# Altium schematic symbol library C-M001-32_V1.0.SCHLIB: 14 symbols
Pins are listed as number, name and electrical type; pins without a type are passive.

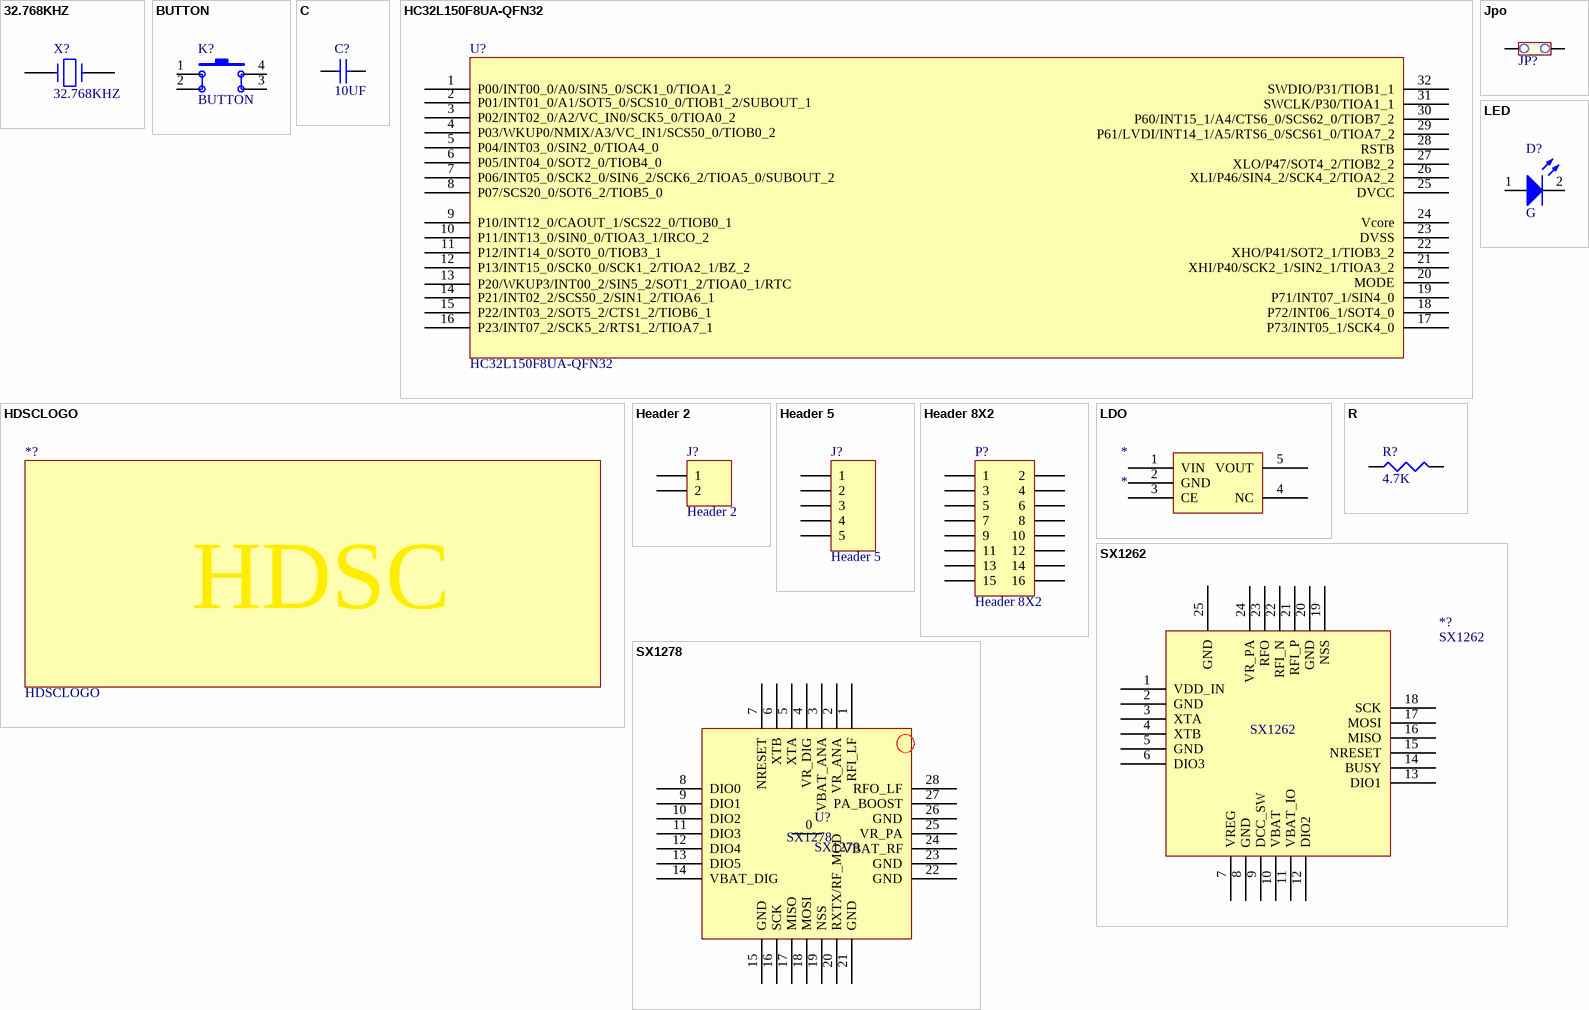
[diagram p0: symbols 32.768KHZ to SX1278]

## 32.768KHZ
designator X?
footprint XTAL-32.7681
pins: 1, 2
2 alternate drawings of the same symbol

## BUTTON
designator K?
footprint KEY1
pins: 1, 2, 3, 4

## C
designator C?, comment 10UF
footprint C0805
pins: 1, 2

## HC32L150F8UA-QFN32
designator U?
footprint QFN32 (QFN, 32-Leads, Body 4.1x4.1mm (max), Pitch 0.40mm, IPC Medium Density)
pins: 1 P00/INT00_0/A0/SIN5_0/SCK1_0/TIOA1_2, 2 P01/INT01_0/A1/SOT5_0/SCS10_0/TIOB1_2/SUBOUT_1, 3 P02/INT02_0/A2/VC_IN0/SCK5_0/TIOA0_2, 4 P03/WKUP0/NMIX/A3/VC_IN1/SCS50_0/TIOB0_2, 5 P04/INT03_0/SIN2_0/TIOA4_0, 6 P05/INT04_0/SOT2_0/TIOB4_0, 7 P06/INT05_0/SCK2_0/SIN6_2/SCK6_2/TIOA5_0/SUBOUT_2, 8 P07/SCS20_0/SOT6_2/TIOB5_0, 9 P10/INT12_0/CAOUT_1/SCS22_0/TIOB0_1, 10 P11/INT13_0/SIN0_0/TIOA3_1/IRCO_2, 11 P12/INT14_0/SOT0_0/TIOB3_1, 12 P13/INT15_0/SCK0_0/SCK1_2/TIOA2_1/BZ_2, 13 P20/WKUP3/INT00_2/SIN5_2/SOT1_2/TIOA0_1/RTC, 14 P21/INT02_2/SCS50_2/SIN1_2/TIOA6_1, 15 P22/INT03_2/SOT5_2/CTS1_2/TIOB6_1, 16 P23/INT07_2/SCK5_2/RTS1_2/TIOA7_1, 17 P73/INT05_1/SCK4_0, 18 P72/INT06_1/SOT4_0, 19 P71/INT07_1/SIN4_0, 20 MODE, 21 XHI/P40/SCK2_1/SIN2_1/TIOA3_2, 22 XHO/P41/SOT2_1/TIOB3_2, 23 DVSS, 24 Vcore, 25 DVCC, 26 XLI/P46/SIN4_2/SCK4_2/TIOA2_2, 27 XLO/P47/SOT4_2/TIOB2_2, 28 RSTB, 29 P61/LVDI/INT14_1/A5/RTS6_0/SCS61_0/TIOA7_2, 30 P60/INT15_1/A4/CTS6_0/SCS62_0/TIOB7_2, 31 SWCLK/P30/TIOA1_1, 32 SWDIO/P31/TIOB1_1

## HDSCLOGO
designator *?
footprint HDSCLOGO
text: HDSC

## Header 2
designator J?
Header, 2-Pin; LatestRevisionDate: 17-Jul-2002; LatestRevisionNote: Re-released for DXP Platform.; Publisher: Altium Limited
footprint SIP2
pins: 1, 2

## Header 5
designator J?
Header, 5-Pin; LatestRevisionDate: 17-Jul-2002; LatestRevisionNote: Re-released for DXP Platform.; Publisher: Altium Limited
footprint HDR1X5 (Connector; Heade)
pins: 1, 2, 3, 4, 5

## Header 8X2
designator P?
Header, 8-Pin, Dual row; LatestRevisionDate: 17-Jul-2002; LatestRevisionNote: Re-released for DXP Platform.; Publisher: Altium Limited
footprint HDR2X8 (Connector; Header; 8x2 Position)
signal-integrity model Connector
pins: 1, 2, 3, 4, 5, 6, 7, 8, 9, 10, 11, 12, 13, 14, 15, 16

## Jpo
designator JP?, comment jumper wire  (value not drawn)
default open jumper wire,0603
footprint SIP2
pins: 1 C1, 2

## LDO
designator *
footprint SOT353-5 (SOT353, 5-Leads, Body 2x1.3mm, Pitch 0.65mm, Lead Span 2.1mm, IPC Medium Density)
pins: 1 VIN, 2 GND, 3 CE, 4 NC, 5 VOUT

## LED
designator D?, comment G
footprint LED0603
pins: 1 A, 2 K

## R
designator R?, comment 4.7K
footprint R0603
pins: 1, 2

## SX1262
designator *?
footprint vqfn24_4x4mm (24 Leads, Body 4.0x4.0mm, Pitch 0.50mm, VQFN24)
pins: 1 VDD_IN, 2 GND, 3 XTA, 4 XTB, 5 GND, 6 DIO3, 7 VREG, 8 GND, 9 DCC_SW, 10 VBAT, 11 VBAT_IO, 12 DIO2, 13 DIO1, 14 BUSY, 15 NRESET, 16 MISO, 17 MOSI, 18 SCK, 19 NSS, 20 GND, 21 RFI_P, 22 RFI_N, 23 RFO, 24 VR_PA, 25 GND

## SX1278
designator U?
footprint QFN-28
pins: 0, 1 RFI_LF, 2 VR_ANA, 3 VBAT_ANA, 4 VR_DIG, 5 XTA, 6 XTB, 7 NRESET, 8 DIO0, 9 DIO1, 10 DIO2, 11 DIO3, 12 DIO4, 13 DIO5, 14 VBAT_DIG, 15 GND, 16 SCK, 17 MISO, 18 MOSI, 19 NSS, 20 RXTX/RF_MOD, 21 GND, 22 GND, 23 GND, 24 VBAT_RF, 25 VR_PA, 26 GND, 27 PA_BOOST, 28 RFO_LF